# EAGLE library part PROTON-C-FULL (library proton-c)
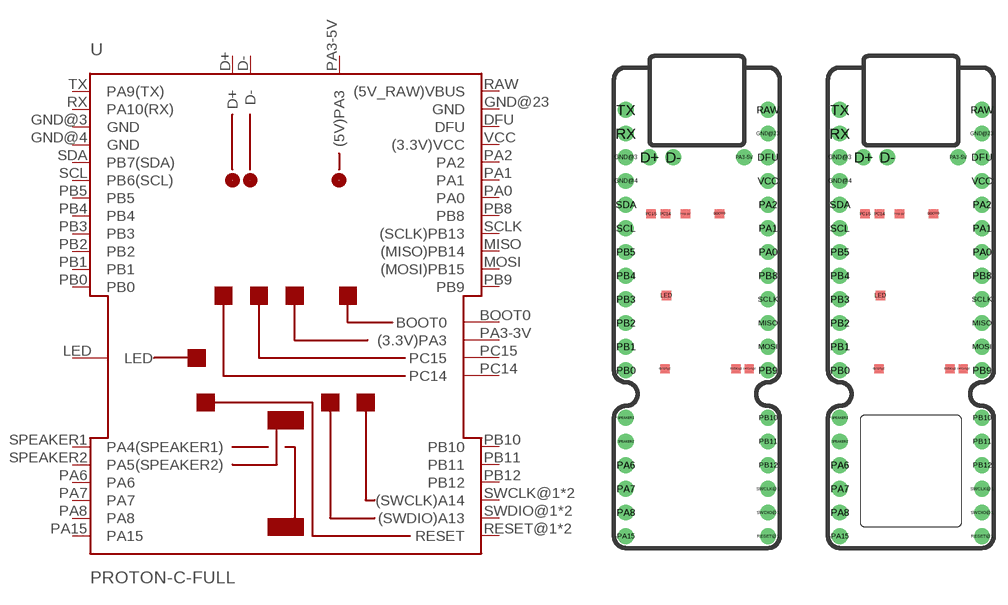
[diagram p1: symbol with the pads of PROTON-C-SMD; footprints PROTON-C-SMD, PROTON-C-SMD-SPEAKER]

Designator prefix U

## PROTON-C-FULL-SMD  [PROTON-C-SMD]
BOOT0  BOOT0
D+  D+
D-  D-
DFU  DFU
GND@3  GND
GND@4  GND
GND@23  GND
LED  LED
MISO  (MISO)PB14
MOSI  (MOSI)PB15
PA0  PA0
PA1  PA1
PA2  PA2
PA3-3V  (3.3V)PA3
PA3-5V  (5V)PA3
PA6  PA6
PA7  PA7
PA8  PA8
PA15  PA15
PB0  PB0
PB1  PB1
PB2  PB2
PB3  PB3
PB4  PB4
PB5  PB5
PB8  PB8
PB9  PB9
PB10  PB10
PB11  PB11
PB12  PB12
PC14  PC14
PC15  PC15
RAW  (5V_RAW)VBUS
RESET@1  RESET
RESET@2  RESET
RX  PA10(RX)
SCL  PB6(SCL)
SCLK  (SCLK)PB13
SDA  PB7(SDA)
SPEAKER1  PA4(SPEAKER1)
SPEAKER2  PA5(SPEAKER2)
SWCLK@1  (SWCLK)A14
SWCLK@2  (SWCLK)A14
SWDIO@1  (SWDIO)A13
SWDIO@2  (SWDIO)A13
TX  PA9(TX)
VCC  (3.3V)VCC

## PROTON-C-FULL-SMD-SPEAKER  [PROTON-C-SMD-SPEAKER]
Pads as for PROTON-C-SMD

## PROTON-C-FULL-THT  [PROTON-C-THT]
Pads as for PROTON-C-SMD

## PROTON-C-FULL-THT-SPEAKER  [PROTON-C-THT-SPEAKER]
Pads as for PROTON-C-SMD

## Footprint PROTON-C-SMD (pad centres in mm)
Proton-C Footprint. This allows you to mount the Proton-C on the top of a board. There are SMD pads corresponding to internal SMD pins.
smd 1 x 1: BOOT0 2.43,2.824; LED -3.27,-5.936; PA3-3V -1.22,2.824; PC14 -3.37,2.824; PC15 -4.92,2.824; RESET@2 -3.429,-13.803; SWCLK@2 5.619,-13.803; SWDIO@2 4.191,-13.803
drill 0.9 pad 1.7: D+ -5.08,8.89; D- -2.54,8.89; DFU 7.62,8.89; GND@3 -7.62,8.89; GND@4 -7.62,6.35; GND@23 7.62,11.43; MISO 7.62,-8.89; MOSI 7.62,-11.43; PA0 7.62,-1.27; PA1 7.62,1.27; PA2 7.62,3.81; PA3-5V 5.08,8.89; PA6 -7.62,-24.13; PA7 -7.62,-26.67; PA8 -7.62,-29.21; PA15 -7.62,-31.75; PB0 -7.62,-13.97; PB1 -7.62,-11.43; PB2 -7.62,-8.89; PB3 -7.62,-6.35; PB4 -7.62,-3.81; PB5 -7.62,-1.27; PB8 7.62,-3.81; PB9 7.62,-13.97; PB10 7.62,-19.05; PB11 7.62,-21.59; PB12 7.62,-24.13; RAW 7.62,13.97; RESET@1 7.62,-31.75; RX -7.62,11.43; SCL -7.62,1.27; SCLK 7.62,-6.35; SDA -7.62,3.81; SPEAKER1 -7.62,-19.05; SPEAKER2 -7.62,-21.59; SWCLK@1 7.62,-26.67; SWDIO@1 7.62,-29.21; TX -7.62,13.97; VCC 7.62,6.35

## Footprint PROTON-C-SMD-SPEAKER (pad centres in mm)
Proton-C Footprint. This allows you to mount the Proton-C on the top of a board. There are SMD pads corresponding to internal SMD pins. There is a cutout for the speaker.
smd 1 x 1: BOOT0 2.43,2.824; LED -3.27,-5.936; PA3-3V -1.22,2.824; PC14 -3.37,2.824; PC15 -4.92,2.824; RESET@2 -3.429,-13.803; SWCLK@2 5.619,-13.803; SWDIO@2 4.191,-13.803
drill 0.9 pad 1.7: D+ -5.08,8.89; D- -2.54,8.89; DFU 7.62,8.89; GND@3 -7.62,8.89; GND@4 -7.62,6.35; GND@23 7.62,11.43; MISO 7.62,-8.89; MOSI 7.62,-11.43; PA0 7.62,-1.27; PA1 7.62,1.27; PA2 7.62,3.81; PA3-5V 5.08,8.89; PA6 -7.62,-24.13; PA7 -7.62,-26.67; PA8 -7.62,-29.21; PA15 -7.62,-31.75; PB0 -7.62,-13.97; PB1 -7.62,-11.43; PB2 -7.62,-8.89; PB3 -7.62,-6.35; PB4 -7.62,-3.81; PB5 -7.62,-1.27; PB8 7.62,-3.81; PB9 7.62,-13.97; PB10 7.62,-19.05; PB11 7.62,-21.59; PB12 7.62,-24.13; RAW 7.62,13.97; RESET@1 7.62,-31.75; RX -7.62,11.43; SCL -7.62,1.27; SCLK 7.62,-6.35; SDA -7.62,3.81; SPEAKER1 -7.62,-19.05; SPEAKER2 -7.62,-21.59; SWCLK@1 7.62,-26.67; SWDIO@1 7.62,-29.21; TX -7.62,13.97; VCC 7.62,6.35

## Footprint PROTON-C-THT (pad centres in mm)
Proton-C Footprint. This allows you to mount the Proton-C on the top of a board. There are 0.5mm drill THT pads corresponding to internal SMD pins.
drill 0.5 octagon: BOOT0 2.43,2.824; LED -3.27,-5.936; PA3-3V -1.22,2.824; PC14 -3.37,2.824; PC15 -4.92,2.824; RESET@2 -3.429,-13.803; SWCLK@2 5.619,-13.803; SWDIO@2 4.191,-13.803
drill 0.9 pad 1.7: D+ -5.08,8.89; D- -2.54,8.89; DFU 7.62,8.89; GND@3 -7.62,8.89; GND@4 -7.62,6.35; GND@23 7.62,11.43; MISO 7.62,-8.89; MOSI 7.62,-11.43; PA0 7.62,-1.27; PA1 7.62,1.27; PA2 7.62,3.81; PA3-5V 5.08,8.89; PA6 -7.62,-24.13; PA7 -7.62,-26.67; PA8 -7.62,-29.21; PA15 -7.62,-31.75; PB0 -7.62,-13.97; PB1 -7.62,-11.43; PB2 -7.62,-8.89; PB3 -7.62,-6.35; PB4 -7.62,-3.81; PB5 -7.62,-1.27; PB8 7.62,-3.81; PB9 7.62,-13.97; PB10 7.62,-19.05; PB11 7.62,-21.59; PB12 7.62,-24.13; RAW 7.62,13.97; RESET@1 7.62,-31.75; RX -7.62,11.43; SCL -7.62,1.27; SCLK 7.62,-6.35; SDA -7.62,3.81; SPEAKER1 -7.62,-19.05; SPEAKER2 -7.62,-21.59; SWCLK@1 7.62,-26.67; SWDIO@1 7.62,-29.21; TX -7.62,13.97; VCC 7.62,6.35

## Footprint PROTON-C-THT-SPEAKER (pad centres in mm)
Proton-C Footprint. This allows you to mount the Proton-C on the top of a board. There are 0.5mm drill THT pads corresponding to internal SMD pins. There is a cutout for the speaker.
drill 0.5 octagon: BOOT0 2.43,2.824; LED -3.27,-5.936; PA3-3V -1.22,2.824; PC14 -3.37,2.824; PC15 -4.92,2.824; RESET@2 -3.429,-13.803; SWCLK@2 5.619,-13.803; SWDIO@2 4.191,-13.803
drill 0.9 pad 1.7: D+ -5.08,8.89; D- -2.54,8.89; DFU 7.62,8.89; GND@3 -7.62,8.89; GND@4 -7.62,6.35; GND@23 7.62,11.43; MISO 7.62,-8.89; MOSI 7.62,-11.43; PA0 7.62,-1.27; PA1 7.62,1.27; PA2 7.62,3.81; PA3-5V 5.08,8.89; PA6 -7.62,-24.13; PA7 -7.62,-26.67; PA8 -7.62,-29.21; PA15 -7.62,-31.75; PB0 -7.62,-13.97; PB1 -7.62,-11.43; PB2 -7.62,-8.89; PB3 -7.62,-6.35; PB4 -7.62,-3.81; PB5 -7.62,-1.27; PB8 7.62,-3.81; PB9 7.62,-13.97; PB10 7.62,-19.05; PB11 7.62,-21.59; PB12 7.62,-24.13; RAW 7.62,13.97; RESET@1 7.62,-31.75; RX -7.62,11.43; SCL -7.62,1.27; SCLK 7.62,-6.35; SDA -7.62,3.81; SPEAKER1 -7.62,-19.05; SPEAKER2 -7.62,-21.59; SWCLK@1 7.62,-26.67; SWDIO@1 7.62,-29.21; TX -7.62,13.97; VCC 7.62,6.35